# EAGLE library part MOTION/POSITION-ADXL345BCCZ-RL(14P-5.0X3.0MM) (library FootVibrator)
314080008
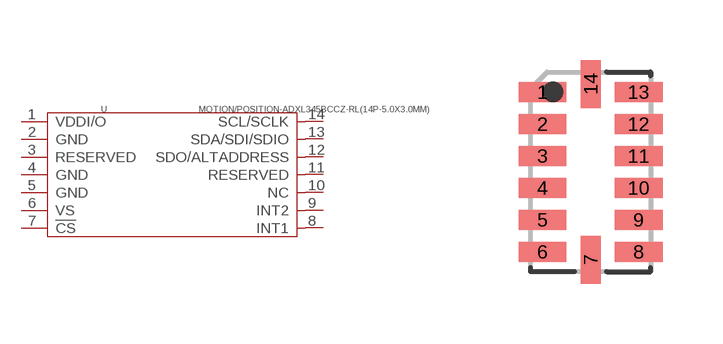
[diagram p1: symbol with the pads of LGA14-0.8-5.0X3.0MM; footprint LGA14-0.8-5.0X3.0MM]

Designator prefix U

## MOTION/POSITION-ADXL345BCCZ-RL(14P-5.0X3.0MM) (MPN: ADXL345BCCZ-RL; VALUE: ADXL345BCCZ-RL)  [LGA14-0.8-5.0X3.0MM]
1  VDDI/O  sup
2  GND  sup
3  RESERVED
4  GND  sup
5  GND  sup
6  VS
7  !CS
8  INT1
9  INT2
10  NC  nc
11  RESERVED
12  SDO/ALTADDRESS
13  SDA/SDI/SDIO
14  SCL/SCLK  in

## Footprint LGA14-0.8-5.0X3.0MM (pad centres in mm)
smd 1.2 x 0.5: 1 -1.2,2; 2 -1.2,1.2; 3 -1.2,0.4; 4 -1.2,-0.4; 5 -1.2,-1.2; 6 -1.2,-2; 8 1.2,-2; 9 1.2,-1.2; 10 1.2,-0.4; 11 1.2,0.4; 12 1.2,1.2; 13 1.2,2
smd 0.5 x 1.2: 7 0,-2.2; 14 0,2.2